# EAGLE library part TCAN332 (library ATSAME51G19A_CAN_BREAKOUT)
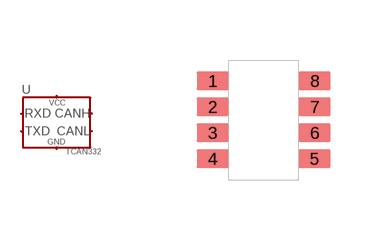
[diagram p2: symbol with the pads of DCN0008A; footprint DCN0008A]

Designator prefix U

## TCAN332  [DCN0008A]
1  TXD  in
2  GND  pwr
3  VCC  pas
4  RXD  out
6  CANL
7  CANH

## Footprint DCN0008A (pad centres in mm)
smd 0.8 x 0.45: 1 -1.275,0.975; 2 -1.275,0.325; 3 -1.275,-0.325; 4 -1.275,-0.975; 5 1.275,-0.975; 6 1.275,-0.325; 7 1.275,0.325; 8 1.275,0.975